# EAGLE library part 62001011821 (library Wuerth_Elektronik_eiCan_Pin_&_Socked_Headers_v1.3)
WR-PHD 2.00mm Socket Header, 10 Pins
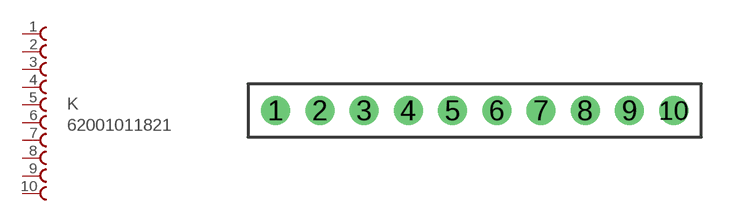
[diagram p290: symbol with the pads of 62001011821; footprint 62001011821]

Designator prefix K

## 62001011821  [62001011821]
1  1  pas
2  2  pas
3  3  pas
4  4  pas
5  5  pas
6  6  pas
7  7  pas
8  8  pas
9  9  pas
10  10  pas

## Footprint 62001011821 (pad centres in mm)
WR-PHD 2.00mm Socket Header, 10 Pins
drill 0.8 round: 1 -9,0; 2 -7,0; 3 -5,0; 4 -3,0; 5 -1,0; 6 1,0; 7 3,0; 8 5,0; 9 7,0; 10 9,0